# Altium footprint library YaoPCB.PCBLIB: 415 footprints (part 18 of 26)
Each footprint in its own frame and in the unit in brackets; x right, y up, seen from the top. Pads: shape width x height; smd on the part's side, far side on the other; paste and mask are expansions set on the pad; w line width, h text height; cw(c..) or ccw(c..) is an arc to the next point about the centre after c.
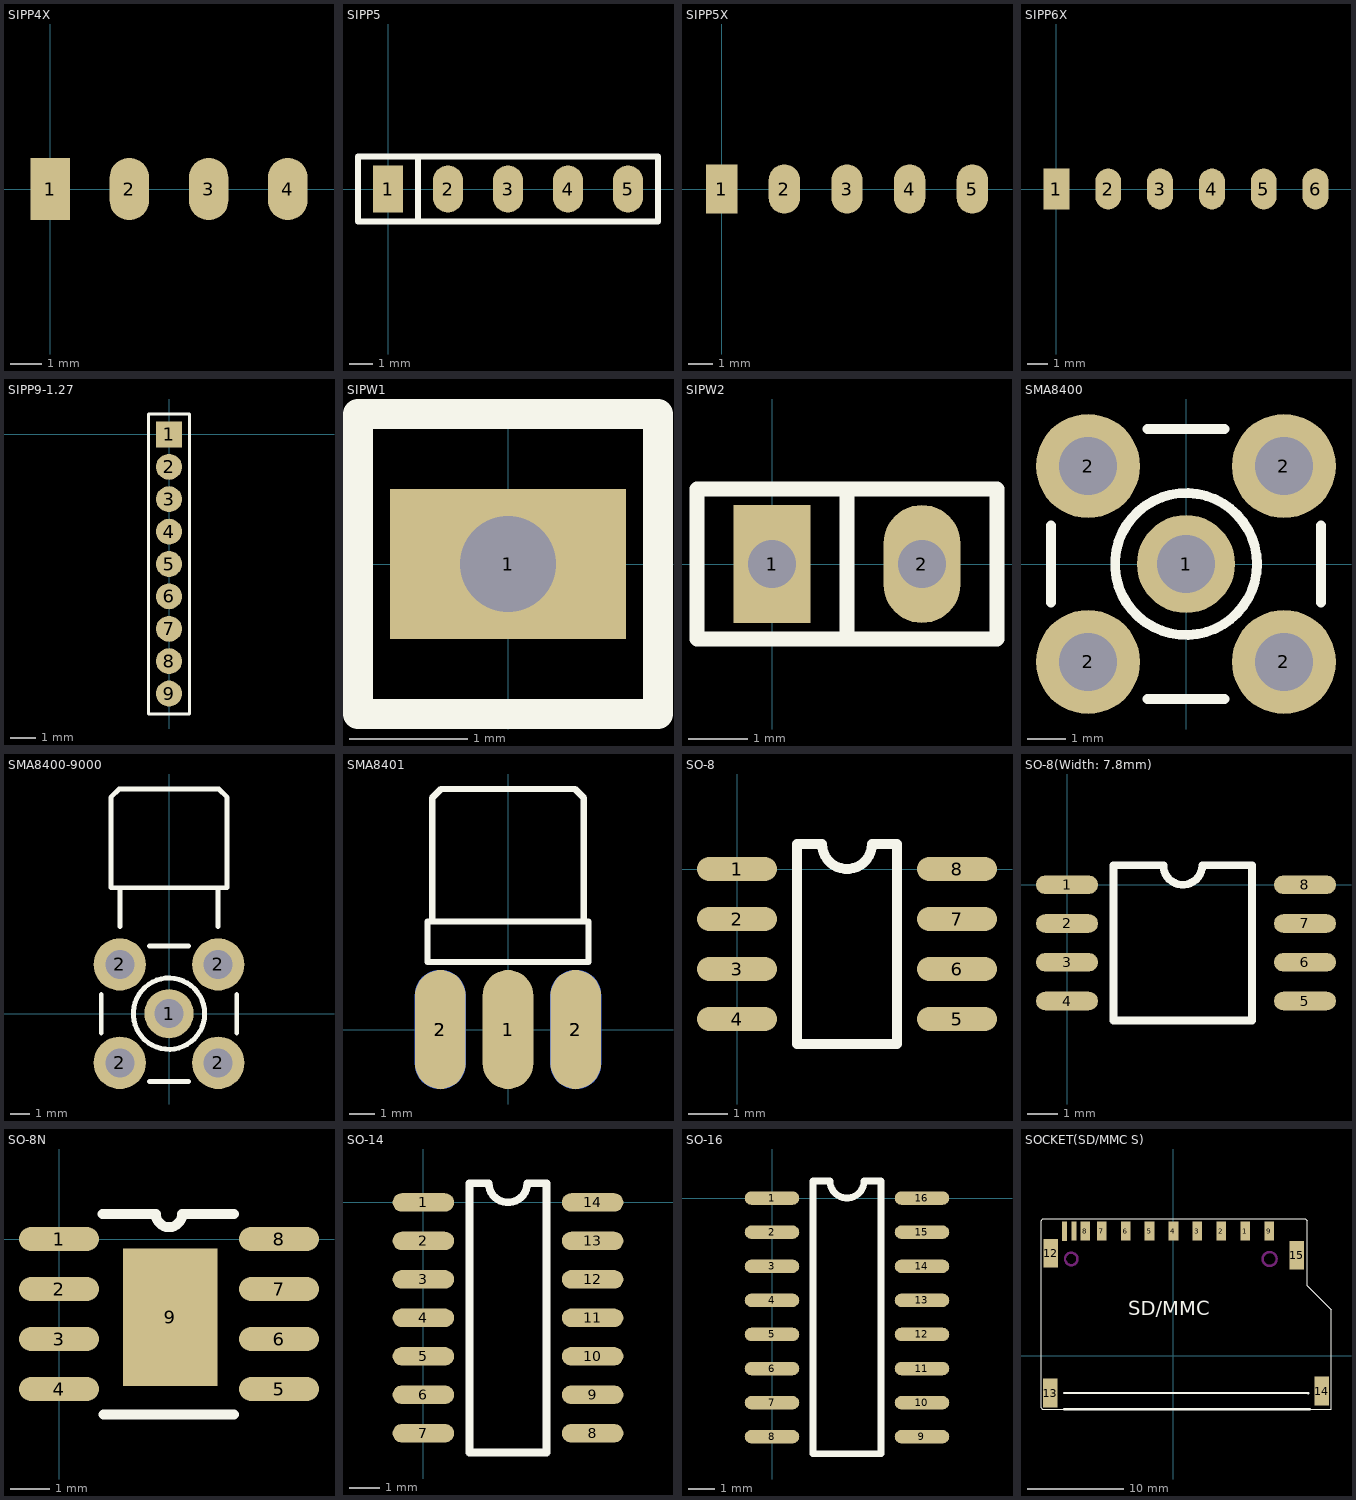
[diagram p17: the footprints below, top view; thin cyan lines are the x and y axes]

## SIPP4X [mm]
pads (4):
  rect 1.27x2 smd: 1(0,0)
  oval 1.27x2 smd: 2(2.54,0) 3(5.08,0) 4(7.62,0)

## SIPP5 [mm]
pads (5):
  rect 1.27x2 smd: 1(0,0)
  oval 1.27x2 smd: 2(2.54,0) 3(5.08,0) 4(7.62,0) 5(10.16,0)
TopOverlay:
  lines w0.254: 1.27,-1.37 1.27,1.37 ; -1.27,-1.37 -1.27,1.37 11.43,1.37 11.43,-1.37 -1.27,-1.37

## SIPP5X [mm]
pads (5):
  rect 1.27x2 smd: 1(0,0)
  oval 1.27x2 smd: 2(2.54,0) 3(5.08,0) 4(7.62,0) 5(10.16,0)

## SIPP6X [mm]
pads (6):
  rect 1.27x2 smd: 1(0,0)
  oval 1.27x2 smd: 2(2.54,0) 3(5.08,0) 4(7.62,0) 5(10.16,0) 6(12.7,0)

## SIPP9-1.27 [mil]
pads (9):
  rect 40x40 smd: 1(0,0)
  round 40 smd: 2(0,-50) 3(0,-100) 4(0,-150) 5(0,-200) 6(0,-250) 7(0,-300) 8(0,-350) 9(0,-400)
TopOverlay:
  lines w5: -31.5,-431.5 -31.5,31.5 31.5,31.5 31.5,-431.5 -31.5,-431.5

## SIPW1 [mm]
pads (1):
  rect 2x1.27 hole 0.813: 1(0,0)
TopOverlay:
  lines w0.254: -1.27,-1.27 -1.27,1.27 1.27,1.27 1.27,-1.27 -1.27,-1.27

## SIPW2 [mm]
pads (2):
  rect 1.3x2 hole 0.813: 1(0,0)
  oval 1.3x2 hole 0.813: 2(2.54,0)
TopOverlay:
  lines w0.254: 1.27,-1.27 1.27,1.27 ; -1.27,-1.27 3.81,-1.27 3.81,1.27 -1.27,1.27 -1.27,-1.27

## SMA8400 [mm]
pads (5):
  round 2.54 hole 1.5: 1(0,0)
  round 2.7 hole 1.5: 2(-2.54,-2.54) 2(-2.54,2.54) 2(2.54,-2.54) 2(2.54,2.54)
TopOverlay:
  circle w0.254: c0,0 r1.841
  lines w0.254: -3.5,-1 -3.5,1 ; -1,-3.5 1,-3.5 ; -1,3.5 1,3.5 ; 3.5,-1 3.5,1

## SMA8400-9000 [mm]
pads (5):
  round 2.54 hole 1.5: 1(0,0)
  round 2.7 hole 1.5: 2(-2.54,-2.54) 2(-2.54,2.54) 2(2.54,-2.54) 2(2.54,2.54)
TopOverlay:
  circle w0.254: c0,0 r1.841
  lines w0.254: -3.5,-1 -3.5,1 ; -2.54,4.5 -2.54,6.5 ; -1,-3.5 1,-3.5 ; -1,3.5 1,3.5 ; 2.54,4.5 2.54,6.5 ; 3.5,-1 3.5,1 ; -3,6.5 -3,11.176 -2.576,11.6 2.576,11.6 3,11.176 3,6.5 -3,6.5

## SMA8401 [mm]
pads (5):
  oval 2x4.7 smd: 1(0,0) 2(-2.675,0) 2(2.675,0)
  oval 2x4.7 smd far side: 2(-2.675,0) 2(2.675,0)
TopOverlay:
  lines w0.254: -3,4.267 -3,9.144 -2.644,9.5 2.644,9.5 3,9.144 3,4.267 ; -3.18,2.667 3.18,2.667 3.18,4.267 -3.18,4.267 -3.18,2.667

## SO-8 [mil]
pads (8):
  oval 80x24 smd: 1(0,0) 2(0,-50) 3(0,-100) 4(0,-150) 5(220,-150) 6(220,-100) 7(220,-50) 8(220,0)
TopOverlay:
  lines w10: 60,-175 160,-175 160,25 135,25 cw(c110,25) 85,25 60,25 60,-175

## SO-8(Width: 7.8mm) [mil]
pads (8):
  oval 80x24 smd: 1(0,0) 2(0,-50) 3(0,-100) 4(0,-150) 5(307.09,-150) 6(307.09,-100) 7(307.09,-50) 8(307.09,0)
TopOverlay:
  lines w10: 124.37,25 ccw(c149.37,25) 174.37,25 237.01,25 ; 124.41,25 60,25 60,-175 238.74,-175 238.74,25

## SO-8N [mil]
pads (9):
  oval 80x24 smd: 1(0,0) 2(0,-50) 3(0,-100) 4(0,-150) 5(220,-150) 6(220,-100) 7(220,-50) 8(220,0)
  rect 94.49x137.8 smd: 9(111.02,-78.35)
TopOverlay:
  lines w10: 43.31,25 96.81,25 ccw(c110,25) 123.19,25 174.8,25 ; 44.49,-175.59 174.8,-175.59

## SO-14 [mil]
pads (14):
  oval 80x24 smd: 1(0,0) 2(0,-50) 3(0,-100) 4(0,-150) 5(0,-200) 6(0,-250) 7(0,-300) 8(220,-300) 9(220,-250) 10(220,-200) 11(220,-150) 12(220,-100) 13(220,-50) 14(220,0)
TopOverlay:
  lines w10: 60,-325 160,-325 160,25 135,25 cw(c110,25) 85,25 60,25 60,-325

## SO-16 [mil]
pads (16):
  oval 80x19.68 smd: 1(0,0) 2(0,-50) 3(0,-100) 4(0,-150) 5(0,-200) 6(0,-250) 7(0,-300) 8(0,-350) 9(220,-350) 10(220,-300) 11(220,-250) 12(220,-200) 13(220,-150) 14(220,-100) 15(220,-50) 16(220,0)
TopOverlay:
  lines w10: 60,-375 160,-375 160,25 135,25 cw(c110,25) 85,25 60,25 60,-375

## SOCKET(SD/MMC S) [mm]
height 2.54
pads (15):
  rect 1x2 smd: 1(7.528,12.998) 2(5.028,12.998) 3(2.528,12.998) 4(0.028,12.998) 5(-2.472,12.998) 6(-4.972,12.998) 7(-7.472,12.998) 8(-9.172,12.998) 9(10.028,12.998)
  rect 0.5x2 smd: 10(-10.366,12.998) 11(-11.356,12.973)
  rect 1.5x3 smd: 12(-12.802,10.683) 13(-12.827,-3.917) 14(15.498,-3.717) 15(12.898,10.483)
TopOverlay:
  lines w0.076: -13.802,-5.478 -13.67,-5.61 16.498,-5.61 16.498,4.783 13.998,7.283 13.998,14.083 13.798,14.283 -13.602,14.283 -13.802,14.083 -13.802,-5.478
  lines w0.254: -11.402,-3.917 14.1,-3.92 ; -11.36,-5.61 14.26,-5.613
  text "SD/MMC" at -4.67,3.68 h2.54
KeepOutLayer:
  circle w0.254: c10.071,10.083 r0.727
  circle w0.254: c-10.652,10.083 r0.65